# Altium footprint library Connectors.PcbLib: 67 footprints (part 1 of 5)
Each footprint in its own frame and in the unit in brackets; x right, y up, seen from the top. Pads: shape width x height; smd on the part's side, far side on the other; paste and mask are expansions set on the pad; w line width, h text height; cw(c..) or ccw(c..) is an arc to the next point about the centre after c.
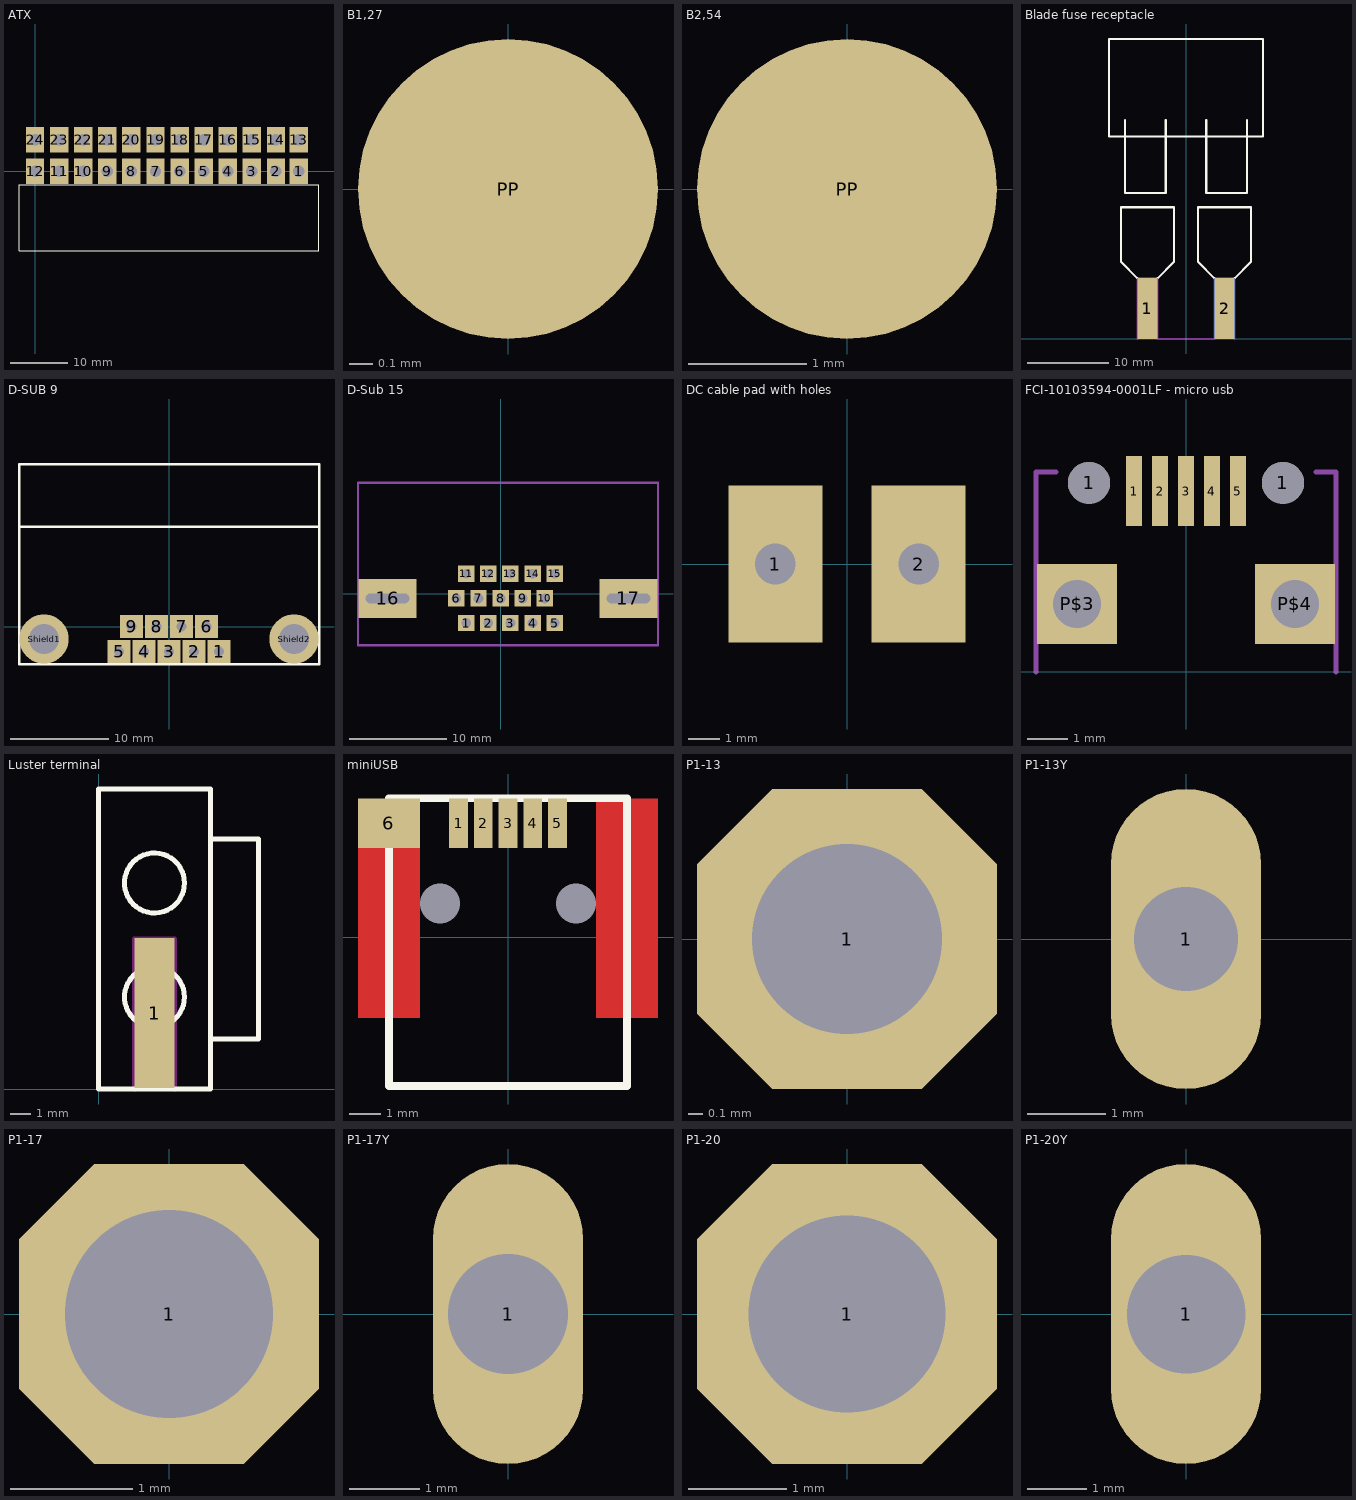
[diagram p0: the footprints below, top view; thin cyan lines are the x and y axes]

## ATX [mm] "Molex MINI-FIT JR. 24-polig"
height 9.6
pads (24):
  rect 3.2x4.4 hole 2 paste+0: 1(46,0) 2(42,0) 3(37.8,0) 4(33.6,0) 5(29.4,0) 6(25.2,0) 7(21,0) 8(16.8,0) 9(12.6,0) 10(8.4,0) 11(4.2,0) 12(0,0) 13(46,5.5) 14(42,5.5) 15(37.8,5.5) 16(33.6,5.5) 17(29.4,5.5) 18(25.2,5.5) 19(21,5.5) 20(16.8,5.5) 21(12.6,5.5) 22(8.4,5.5) 23(4.2,5.5) 24(0,5.5)
Top Overlay:
  lines w0.2: -2.794,-13.9 -2.794,-2.34 49.5,-2.34 49.5,-13.9 -2.794,-13.9
3D body "ATX.stp": height 12.4, standoff -2.6, extent -2.632,-13.97 49.368,5.965

## B1,27 [mm]
pads (1):
  rrect100% 1.27x1.27 smd paste-0.635: PP(0,0)
Mechanical 22:
  lines w0.002: -0.635,0 0.635,0 ; 0,-0.635 0,0.635

## B2,54 [mm]
pads (1):
  rrect100% 2.54x2.54 smd paste-1.27: PP(0,0)
Mechanical 22:
  circle w0.254: c0,0 r0.635
  lines w0.002: -0.635,0 0.635,0 ; 0,-0.635 0,0.635

## Blade fuse receptacle [mm]
pads (4):
  rect 2.5x7.5 smd mask+0: 1(-4.75,3.75) 2(4.75,3.75)
  rect 2.5x7.5 smd far side mask+0: 1(-4.75,3.75) 2(4.75,3.75)
Top Overlay:
  lines w0.254: -7.5,27 -7.5,18 -2.5,18 -2.5,27 ; -6,7.5 -8,9.5 -8,16.25 -1.5,16.25 -1.5,9.5 -3.5,7.5 ; 2.5,27 2.5,18 7.5,18 7.5,27 ; 3.5,7.5 1.5,9.5 1.5,16.25 8,16.25 8,9.5 6,7.5 ; -9.5,25 9.5,25 9.5,37 -9.5,37 -9.5,25
Keep-Out Layer:
  lines w0.254: -6,0 -6,7.5 -3.5,7.5 -3.5,0 3.5,0 3.5,7.5 6,7.5 6,0

## D-SUB 9 [mm]
pads (11):
  rect 2.3x2.3 hole 1: 1(5.08,-2.54) 2(2.54,-2.54) 3(0,-2.54) 4(-2.54,-2.54) 5(-5.08,-2.54) 6(3.81,0) 7(1.27,0) 8(-1.27,0) 9(-3.81,0)
  round 5 hole 3: Shield1(-12.7,-1.27) Shield2(12.7,-1.27)
Top Overlay:
  lines w0.254: -15.24,10.16 15.24,10.16 ; -15.24,-3.81 15.24,-3.81 15.24,16.51 -15.24,16.51 -15.24,-3.81

## D-Sub 15 [mm] "VGA connector"
pads (17):
  rect 1.7x1.7 hole 1: 1(-3.556,-3.048) 2(-1.27,-3.048) 3(1.016,-3.048) 4(3.302,-3.048) 5(5.588,-3.048) 6(-4.572,-0.508) 7(-2.286,-0.508) 8(0,-0.508) 9(2.286,-0.508) 10(4.572,-0.508) 11(-3.556,2.032) 12(-1.27,2.032) 13(1.016,2.032) 14(3.302,2.032) 15(5.588,2.032)
  rect 6x4 hole 1 slot 4.5 at 0 deg: 16(-11.684,-0.508) 17(13.208,-0.508)
Mechanical 1:
  lines w0.254: -14.732,-5.334 16.256,-5.334 16.256,11.43 -14.732,11.43 -14.732,-5.334
3D body "HDL_15-SL-B.STEP": height 12.77, standoff -3.69, extent -14.665,-5.324 16.135,16.876

## DC cable pad with holes [mm]
pads (2):
  rect 3x5 hole 1.3: 1(-2.286,0) 2(2.286,0)

## FCI-10103594-0001LF - micro usb [mm] "http://portal.fciconnect.com/res/en/pdffiles/doc_search/10103594.pdf"
pads (9):
  round 1.05 hole 1.05: 1(-2.425,4.73) 1(2.425,4.73)
  rect 0.4x1.75 smd: 1(-1.3,4.525) 2(-0.65,4.525) 3(0,4.525) 4(0.65,4.525) 5(1.3,4.525)
  rect 2x2 hole 1.2: P$3(-2.725,1.7) P$4(2.725,1.7)
Mechanical 2:
  lines w0.127: -3.75,0 -3.75,5 -3.25,5 ; 3.25,5 3.75,5 3.75,0

## Luster terminal [mm]
pads (1):
  rect 2x7.5 all layers, no hole: 1(2.8,3.8)
Top Overlay:
  circle w0.254: c2.8,10.3 r1.5
  circle w0.254: c2.8,4.6 r1.5
  lines w0.254: 5.6,2.5 8,2.5 8,12.5 5.6,12.5 ; 0,0 0,15 5.6,15 5.6,0 0,0
Keep-Out Layer:
  lines w0.254: 1.8,0 1.8,7.5 3.8,7.5 3.8,0

## miniUSB [mm]
pads (8):
  rect 0.6x1.6 smd: 1(-1.6,3.7) 2(-0.8,3.7) 3(0,3.7) 4(0.8,3.7) 5(1.6,3.7)
  rect 2x1.6 smd: 6(-3.85,3.7)
  rect 0x0 hole 1.3: 10(-2.2,1.1) 20(2.2,1.1)
Top Layer:
  rectangle: -4.85,-2.6 -2.85,2.9
  rectangle: 2.85,-1 4.85,4.5
  rectangle: 2.85,-2.6 4.85,-1
Top Overlay:
  lines w0.254: -3.85,-4.8 3.85,-4.8 3.85,4.5 -3.85,4.5 -3.85,-4.8
3D body "c-1734328-1-d-3d.stp": height 4.14, standoff -0.95, extent -4.95,-4.7 4.95,4.5

## P1-13 [mil]
pads (1):
  oct 82.3x82.3 hole 52: 1(0,0)
Mechanical 18:
  circle w6: c0,0 r30
  rectangle: -13,-13 13,13

## P1-13Y [mil]
pads (1):
  oval 75x150 hole 52: 1(0,0)
Mechanical 18:
  circle w6: c0,0 r30
  rectangle: -13,-13 13,13

## P1-17 [mil]
pads (1):
  oct 96.82x96.82 hole 67: 1(0,0)
Mechanical 18:
  circle w6: c0,0 r32
  rectangle: -13,-13 13,13

## P1-17Y [mil]
pads (1):
  oval 83.5x167 hole 67: 1(0,0)
Mechanical 18:
  circle w6: c0,0 r32
  rectangle: -13,-13 13,13

## P1-20 [mil]
pads (1):
  oct 120.06x120.06 hole 79: 1(0,0)
Mechanical 18:
  circle w6: c0,0 r40
  rectangle: -13,-13 13,13

## P1-20Y [mil]
pads (1):
  oval 100x200 hole 79: 1(0,0)
Mechanical 18:
  circle w6: c0,0 r40
  rectangle: -13,-13 13,13